# EAGLE library part 5035521020 (library connector)
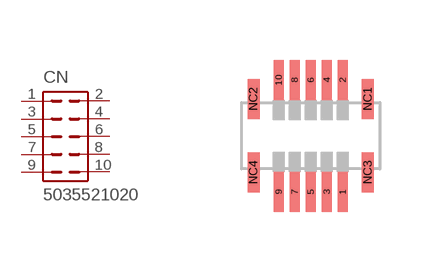
[diagram p2: symbol with the pads of 5035521020; footprint 5035521020]

Designator prefix CN

## 5035521020  [5035521020]
1  1  pas
2  2  pas
3  3  pas
4  4  pas
5  5  pas
6  6  pas
7  7  pas
8  8  pas
9  9  pas
10  10  pas

## Footprint 5035521020 (pad centres in mm)
smd 0.24 x 1: 1 0.8,-1.4; 2 0.8,1.4; 3 0.4,-1.4; 4 0.4,1.4; 5 0,-1.4; 6 0,1.4; 7 -0.4,-1.4; 8 -0.4,1.4; 9 -0.8,-1.4; 10 -0.8,1.4
smd 0.3 x 1: NC1 1.43,0.92; NC2 -1.43,0.92; NC3 1.43,-0.92; NC4 -1.43,-0.92